# Altium integrated library Embedded Solutions.IntLib: 5 symbols
Pins are listed as number, name and electrical type; pins without a type are passive.

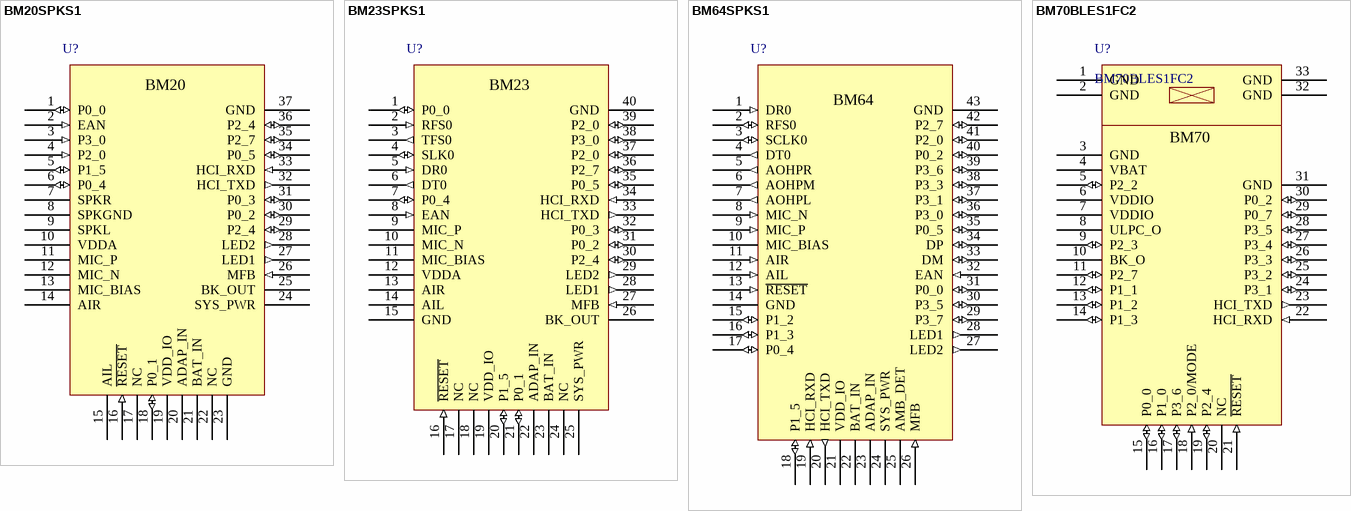
[diagram p0: symbols BM20SPKS1 to BM70BLES1FC2]

## BM20SPKS1
designator U?  (value not drawn)
Stereo Bluetooth Module, Analog Audio
footprint BM20SPKS1 (BM20 Analog Stereo Bluetooth Module, QFN, 1.2mm pitch)
pins: 1 P0_0 (io), 2 EAN (in), 3 P3_0 (in), 4 P2_0 (in), 5 P1_5 (io), 6 P0_4 (io), 7 SPKR, 8 SPKGND, 9 SPKL, 10 VDDA (power), 11 MIC_P, 12 MIC_N, 13 MIC_BIAS, 14 AIR, 15 AIL, 16 ~{RESET} (in), 17 NC, 18 P0_1 (io), 19 VDD_IO (power), 20 ADAP_IN (power), 21 BAT_IN (power), 22 NC (hiz), 23 GND (power), 24 SYS_PWR (power), 25 BK_OUT (power), 26 MFB (in), 27 LED1 (out), 28 LED2 (out), 29 P2_4 (io), 30 P0_2 (io), 31 P0_3 (io), 32 HCI_TXD (out), 33 HCI_RXD (in), 34 P0_5 (io), 35 P2_7 (io), 36 P2_4 (io), 37 GND (power)
text: BM20

## BM23SPKS1
designator U?  (value not drawn)
Stereo Bluetooth Module, I2S Audio
footprint BM23SPKS1 (BM23 Stereo Bluetooth Module, QFN, 1.2mm pitch)
pins: 1 P0_0 (io), 2 RFS0 (in), 3 TFS0 (out), 4 SLK0 (io), 5 DR0 (in), 6 DT0 (out), 7 P0_4 (io), 8 EAN (in), 9 MIC_P, 10 MIC_N, 11 MIC_BIAS, 12 VDDA (power), 13 AIR, 14 AIL, 15 GND (power), 16 ~{RESET} (in), 17 NC (hiz), 18 NC (hiz), 19 VDD_IO (power), 20 P1_5 (io), 21 P0_1 (io), 22 ADAP_IN (power), 23 BAT_IN (power), 24 NC (hiz), 25 SYS_PWR (power), 26 BK_OUT (power), 27 MFB (in), 28 LED1 (out), 29 LED2 (out), 30 P2_4 (io), 31 P0_2 (io), 32 P0_3 (io), 33 HCI_TXD (out), 34 HCI_RXD (in), 35 P0_5 (io), 36 P2_7 (io), 37 P2_0 (io), 38 P3_0 (io), 39 P2_0 (io), 40 GND (power)
text: BM23

## BM64SPKS1
designator U?  (value not drawn)
Stereo Bluetooth Module, I2S Audio, Dual Mode
footprint BM64SPKS1 (BM64 I2S Stereo Bluetooth Module, QFN, 1.2mm pitch)
pins: 1 DR0 (in), 2 RFS0 (io), 3 SCLK0 (io), 4 DT0 (out), 5 AOHPR (out), 6 AOHPM (out), 7 AOHPL (out), 8 MIC_N (in), 9 MIC_P (in), 10 MIC_BIAS, 11 AIR (in), 12 AIL (in), 13 ~{RESET} (in), 14 GND (power), 15 P1_2 (io), 16 P1_3 (io), 17 P0_4 (io), 18 P1_5 (io), 19 HCI_RXD (in), 20 HCI_TXD (out), 21 VDD_IO (power), 22 BAT_IN (power), 23 ADAP_IN (power), 24 SYS_PWR (power), 25 AMB_DET (hiz), 26 MFB (in), 27 LED2 (out), 28 LED1 (out), 29 P3_7 (io), 30 P3_5 (io), 31 P0_0 (io), 32 EAN (in), 33 DM (io), 34 DP (io), 35 P0_5 (io), 36 P3_0 (io), 37 P3_1 (io), 38 P3_3 (io), 39 P3_6 (io), 40 P0_2 (io), 41 P2_0 (io), 42 P2_7 (io), 43 GND (power)
text: BM64

## BM70BLES1FC2
designator U?
Bluetooth Low Energy Module
footprint BM70BLES1FC2 (Low Energy Bluetooth Module, QFN, 1.1mm pitch)
pins: 1 GND (power), 2 GND (power), 3 GND (power), 4 VBAT (power), 5 P2_2 (io), 6 VDDIO (power), 7 VDDIO (power), 8 ULPC_O (power), 9 P2_3 (io), 10 BK_O (power), 11 P2_7 (io), 12 P1_1 (io), 13 P1_2 (io), 14 P1_3 (io), 15 P0_0 (io), 16 P1_0 (io), 17 P3_6 (io), 18 P2_0/MODE (in), 19 P2_4 (io), 20 NC, 21 ~{RESET} (in), 22 HCI_RXD (in), 23 HCI_TXD (out), 24 P3_1 (io), 25 P3_2 (io), 26 P3_3 (io), 27 P3_4 (io), 28 P3_5 (io), 29 P0_7 (io), 30 P0_2 (io), 31 GND (power), 32 GND (power), 33 GND (power)
text: BM70


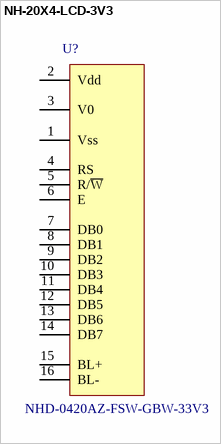
[diagram p1: symbol NH-20X4-LCD-3V3]

## NH-20X4-LCD-3V3
designator U?, comment NHD-0420AZ-FSW-GBW-33V3
NewHaven 20x4 Character LCD, 3.3V; Value: NHD-0420AZ-FSW-GBW-33V3
footprint NH-20X4-3V3
pins: 1 Vss (power), 2 Vdd (power), 3 V0 (power), 4 RS, 5 R/~{W}, 6 E, 7 DB0, 8 DB1, 9 DB2, 10 DB3, 11 DB4, 12 DB5, 13 DB6, 14 DB7, 15 BL+, 16 BL-